# Altium footprint library EEG.PcbLib: 6 footprints
Each footprint in its own frame and in the unit in brackets; x right, y up, seen from the top. Pads: shape width x height; smd on the part's side, far side on the other; paste and mask are expansions set on the pad; w line width, h text height; cw(c..) or ccw(c..) is an arc to the next point about the centre after c.
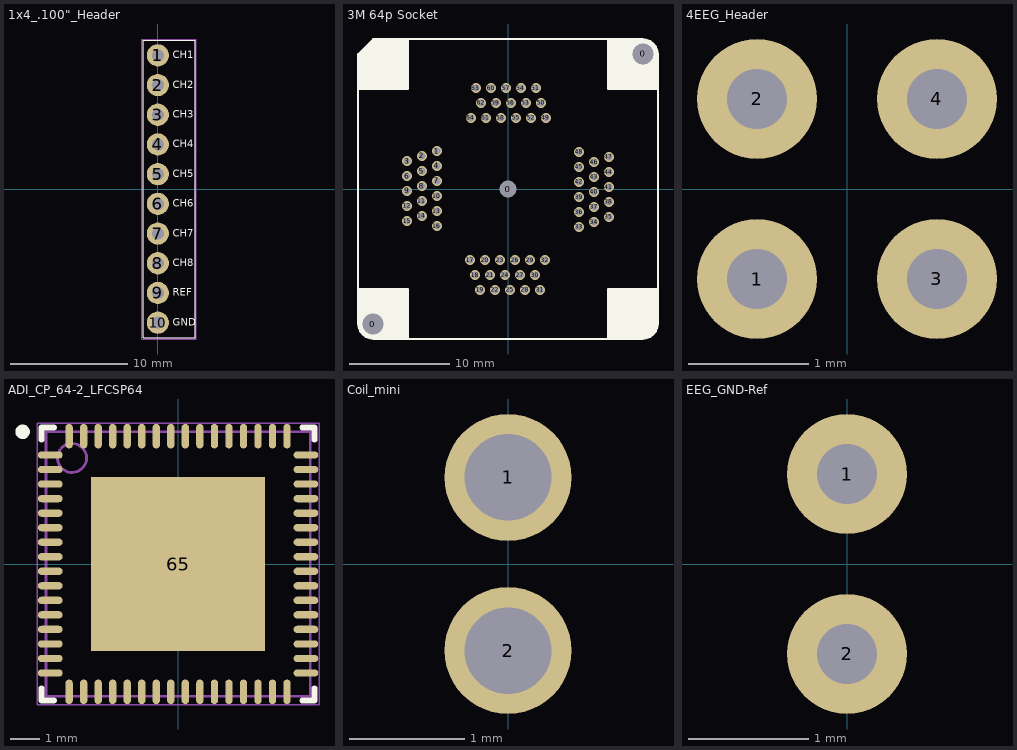
[diagram p0: the footprints below, top view; thin cyan lines are the x and y axes]

## 1x4_.100"_Header [mm]
pads (10):
  round 1.9 hole 1.02: 1(0,11.43) 2(0,8.89) 3(0,6.35) 4(0,3.81) 5(0,1.27) 6(0,-1.27) 7(0,-3.81) 8(0,-6.35) 9(0,-8.89) 10(0,-11.43)
Top Overlay:
  lines w0.1: -1.27,-12.7 -1.27,12.7 3.2,12.7 3.2,-12.7 -1.27,-12.7
  text "GND" at 1.27,-11.684 h0.61
  text "REF" at 1.27,-9.144 h0.61
  text "CH8" at 1.27,-6.604 h0.61
  text "CH7" at 1.27,-4.064 h0.61
  text "CH6" at 1.27,-1.524 h0.61
  text "CH5" at 1.27,1.016 h0.61
  text "CH4" at 1.27,3.556 h0.61
  text "CH3" at 1.27,6.096 h0.61
  text "CH2" at 1.27,8.636 h0.61
  text "CH1" at 1.27,11.176 h0.61
Mechanical 13:
  lines w0.1: -1.27,-12.7 3.2,-12.7 3.2,12.7 -1.27,12.7 -1.27,-12.7
Mechanical 15:
  lines w0.1: -1.397,-12.827 3.302,-12.827 3.302,12.827 -1.397,12.827 -1.397,-12.827

## 3M 64p Socket [mm]
pads (67):
  round 1.1 hole 2.1 paste+0: 0(-13.5,-13.5) 0(13.5,13.5)
  round 1.1 hole 1.7 paste+0: 0(0,0)
  round 1 hole 0.7 mask+0.07: 1(-7.1,3.8) 2(-8.6,3.3) 3(-10.1,2.8)
  round 1 hole 0.7 paste+0 mask+0.07: 4(-7.1,2.3) 5(-8.6,1.8) 6(-10.1,1.3) 7(-7.1,0.8) 8(-8.6,0.3) 9(-10.1,-0.2) 10(-7.1,-0.7) 11(-8.6,-1.2) 12(-10.1,-1.7) 13(-7.1,-2.2) 14(-8.6,-2.7) 15(-10.1,-3.2) 16(-7.1,-3.7) 17(-3.8,-7.1) 18(-3.3,-8.6) 19(-2.8,-10.1) 20(-2.3,-7.1) 21(-1.8,-8.6) 22(-1.3,-10.1) 23(-0.8,-7.1) 24(-0.3,-8.6) 25(0.2,-10.1) 26(0.7,-7.1) 27(1.2,-8.6) 28(1.7,-10.1) 29(2.2,-7.1) 30(2.7,-8.6) 31(3.2,-10.1) 32(3.7,-7.1) 33(7.1,-3.8) 34(8.6,-3.3) 35(10.1,-2.8) 36(7.1,-2.3) 37(8.6,-1.8) 38(10.1,-1.3) 39(7.1,-0.8) 40(8.6,-0.3) 41(10.1,0.2) 42(7.1,0.7) 43(8.6,1.2) 44(10.1,1.7) 45(7.1,2.2) 46(8.6,2.7) 47(10.1,3.2) 48(7.1,3.7) 49(3.8,7.1) 50(3.3,8.6) 51(2.8,10.1) 52(2.3,7.1) 53(1.8,8.6) 54(1.3,10.1) 55(0.8,7.1) 56(0.3,8.6) 57(-0.2,10.1) 58(-0.7,7.1) 59(-1.2,8.6) 60(-1.7,10.1) 61(-2.2,7.1) 62(-2.7,8.6) 63(-3.2,10.1) 64(-3.7,7.1)
Top Overlay:
  region: -10,-10 -15,-10 -15,-13.5 -15,-13.648 -14.942,-13.938 -14.829,-14.211 -14.665,-14.456 -14.456,-14.665 -14.211,-14.829 -13.938,-14.942 -13.648,-15 -13.5,-15 -10,-15
  region: 10,-10 10,-15 13.5,-15 13.648,-15 13.938,-14.942 14.211,-14.829 14.456,-14.665 14.665,-14.456 14.829,-14.211 14.942,-13.938 15,-13.648 15,-13.5 15,-10
  region: 10,10 15,10 15,13.5 15,13.648 14.942,13.938 14.829,14.211 14.665,14.456 14.456,14.665 14.211,14.829 13.938,14.942 13.648,15 13.5,15 10,15
  region: -10,10 -10,15 -13.5,15 -15,13.5 -15,10
  lines w0.152: -15,-10 -15,-13.5 ccw(c-13.5,-13.5) -13.5,-15 -10,-15 ; -15,-10 -10,-10 -10,-15 ; -15,-10 -15,10 ; -15,10 -10,10 -10,15 ; -15,10 -15,13.5 -13.5,15 -10,15 ; -10,-15 10,-15 ; -10,15 10,15 ; 10,-15 13.5,-15 ccw(c13.5,-13.5) 15,-13.5 15,-10 ; 10,-15 10,-10 15,-10 ; 10,15 13.5,15 cw(c13.5,13.5) 15,13.5 15,10 ; 10,15 10,10 15,10 ; 15,-10 15,10
3D body: height 17, standoff 0, extent -15,-15 15,15

## 4EEG_Header [mm]
pads (4):
  round 1 hole 0.5: 1(-0.75,-0.75) 2(-0.75,0.75) 3(0.75,-0.75) 4(0.75,0.75)

## ADI_CP_64-2_LFCSP64 [mm] "QFN, 64-Leads, Body 9.00x9.00mm, Pitch 0.50mm, Thermal Pad 6.00x6.00mm, IPC High Density"
height 1
pads (65):
  oval 0.85x0.25 smd mask+0.07: 1(-4.4,3.75) 2(-4.4,3.25) 3(-4.4,2.75) 4(-4.4,2.25) 5(-4.4,1.75) 6(-4.4,1.25) 7(-4.4,0.75) 8(-4.4,0.25) 9(-4.4,-0.25) 10(-4.4,-0.75) 11(-4.4,-1.25) 12(-4.4,-1.75) 13(-4.4,-2.25) 14(-4.4,-2.75) 15(-4.4,-3.25) 16(-4.4,-3.75) 33(4.4,-3.75) 34(4.4,-3.25) 35(4.4,-2.75) 36(4.4,-2.25) 37(4.4,-1.75) 38(4.4,-1.25) 39(4.4,-0.75) 40(4.4,-0.25) 41(4.4,0.25) 42(4.4,0.75) 43(4.4,1.25) 44(4.4,1.75) 45(4.4,2.25) 46(4.4,2.75) 47(4.4,3.25) 48(4.4,3.75)
  oval 0.25x0.85 smd mask+0.07: 17(-3.75,-4.4) 18(-3.25,-4.4) 19(-2.75,-4.4) 20(-2.25,-4.4) 21(-1.75,-4.4) 22(-1.25,-4.4) 23(-0.75,-4.4) 24(-0.25,-4.4) 25(0.25,-4.4) 26(0.75,-4.4) 27(1.25,-4.4) 28(1.75,-4.4) 29(2.25,-4.4) 30(2.75,-4.4) 31(3.25,-4.4) 32(3.75,-4.4) 49(3.75,4.4) 50(3.25,4.4) 51(2.75,4.4) 52(2.25,4.4) 53(1.75,4.4) 54(1.25,4.4) 55(0.75,4.4) 56(0.25,4.4) 57(-0.25,4.4) 58(-0.75,4.4) 59(-1.25,4.4) 60(-1.75,4.4) 61(-2.25,4.4) 62(-2.75,4.4) 63(-3.25,4.4) 64(-3.75,4.4)
  rect 6x6 smd mask+0.07: 65(0,0)
Top Overlay:
  circle w0.25: c-5.35,4.55 r0.125
  lines w0.2: -4.7,-4.275 -4.7,-4.7 -4.275,-4.7 ; -4.7,4.275 -4.7,4.7 -4.275,4.7 ; 4.275,-4.7 4.7,-4.7 4.7,-4.275 ; 4.275,4.7 4.7,4.7 4.7,4.275
Mechanical 13:
  circle w0.1: c-3.65,3.65 r0.5
  lines w0.1: -4.55,-4.55 4.55,-4.55 4.55,4.55 -4.55,4.55 -4.55,-4.55
Mechanical 15:
  lines w0.05: -4.85,-4.85 4.85,-4.85 4.85,4.85 -4.85,4.85 -4.85,-4.85
  lines w0.1: -0.5,0 0.5,0 ; 0,-0.5 0,0.5
3D body "ADI_CP_64-2_LFCSP64.step": height 1, standoff 0, extent -4.551,-4.551 4.551,4.551

## Coil_mini [mm]
pads (2):
  round 1.1 hole 0.75: 1(0,0.75) 2(0,-0.75)

## EEG_GND-Ref [mm]
pads (2):
  round 1 hole 0.5: 1(0,0.75) 2(0,-0.75)